# EAGLE library part ARDUINO_MICRO (library Arduino Micro1)
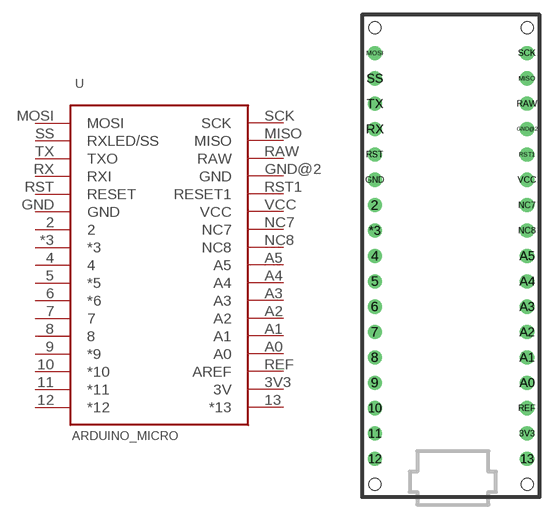
[diagram p0: symbol with the pads of ARDUINO-MICRO; footprint ARDUINO-MICRO]

Designator prefix -

## ARDUINO_MICROFOOTPRINT  [ARDUINO-MICRO]
2  2
3V3  3V
4  4
5  *5
6  *6
7  7
8  8
9  *9
10  *10
11  *11
12  *12
13  *13
*3  *3
A0  A0
A1  A1
A2  A2
A3  A3
A4  A4
A5  A5
GND  GND
GND@2  GND
MISO  MISO
MOSI  MOSI
NC7  NC7
NC8  NC8
RAW  RAW
REF  AREF
RST  RESET
RST1  RESET1
RX  RXI
SCK  SCK
SS  RXLED/SS
TX  TXO
VCC  VCC

## Footprint ARDUINO-MICRO (pad centres in mm)
drill 0.9: 2 1.27,26.67; 3V3 16.51,3.81; 4 1.27,21.59; 5 1.27,19.05; 6 1.27,16.51; 7 1.27,13.97; 8 1.27,11.43; 9 1.27,8.89; 10 1.27,6.35; 11 1.27,3.81; 12 1.27,1.27; 13 16.51,1.27; *3 1.27,24.13; A0 16.51,8.89; A1 16.51,11.43; A2 16.51,13.97; A3 16.51,16.51; A4 16.51,19.05; A5 16.51,21.59; GND 1.27,29.21; GND@2 16.51,34.29; MISO 16.51,39.37; MOSI 1.27,41.91; NC7 16.51,26.67; NC8 16.51,24.13; RAW 16.51,36.83; REF 16.51,6.35; RST 1.27,31.75; RST1 16.51,31.75; RX 1.27,34.29; SCK 16.51,41.91; SS 1.27,39.37; TX 1.27,36.83; VCC 16.51,29.21
hole 1.2 at 1.27,-1.27
hole 1.2 at 16.51,-1.27
hole 1.2 at 1.27,44.45
hole 1.2 at 16.51,44.45